# Altium footprint library PlateDrill_3mm.PcbLib: 1 footprints
Each footprint in its own frame and in the unit in brackets; x right, y up, seen from the top. Pads: shape width x height; smd on the part's side, far side on the other; paste and mask are expansions set on the pad; w line width, h text height; cw(c..) or ccw(c..) is an arc to the next point about the centre after c.
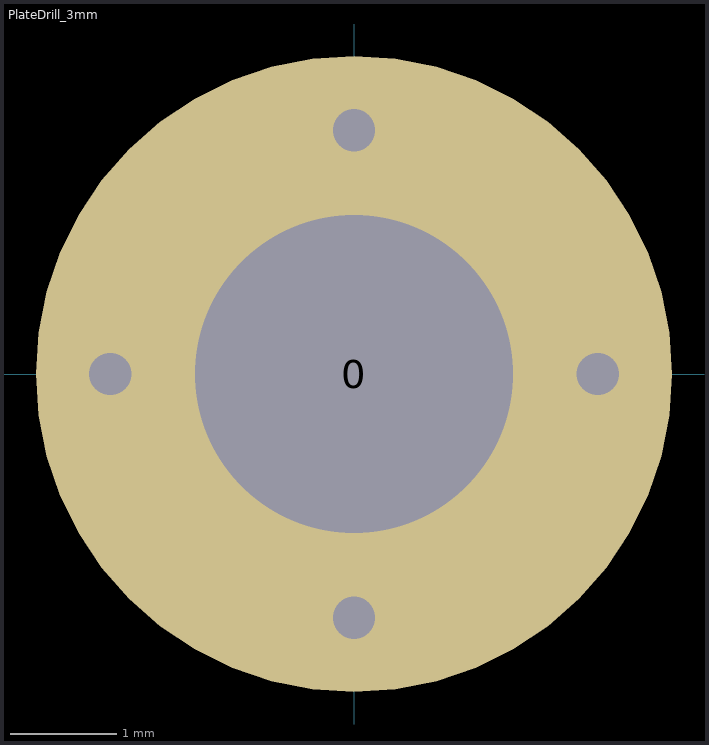
[diagram p0: the footprint, top view; thin cyan lines are the x and y axes]

## PlateDrill_3mm [mm]
pads (5):
  round 0 hole 0.4: 0(-2.3,0) 0(0,-2.3) 0(0,2.3) 0(2.3,0)
  round 6 hole 3: 0(0,0)